# Altium footprint library MBRD20100CT13.PcbLib: 1 footprints
Each footprint in its own frame and in the unit in brackets; x right, y up, seen from the top. Pads: shape width x height; smd on the part's side, far side on the other; paste and mask are expansions set on the pad; w line width, h text height; cw(c..) or ccw(c..) is an arc to the next point about the centre after c.
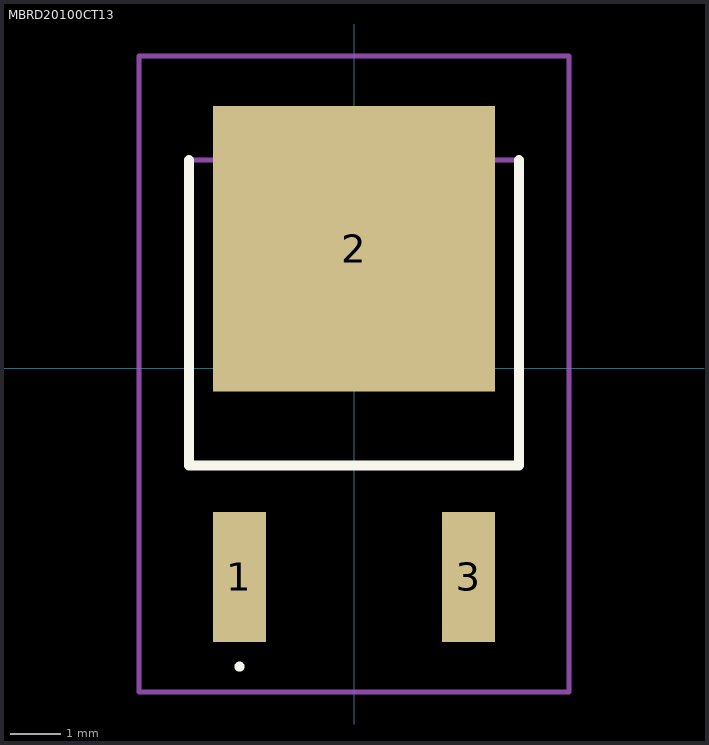
[diagram p0: the footprint, top view; thin cyan lines are the x and y axes]

## MBRD20100CT13 [mm]
pads (3):
  rect 1.06x2.6 smd: 1(-2.286,-4.16) 3(2.286,-4.16)
  rect 5.632x5.7 smd: 2(0,2.39)
Top Overlay:
  lines w0.1: -2.286,-6 -2.286,-6 ; -2.286,-6 ccw(c-2.286,-5.95) -2.286,-5.9 ; -2.286,-6 cw(c-2.286,-5.95) -2.286,-5.9 ; -2.286,-5.9 -2.286,-5.9
  lines w0.2: -3.29,4.16 -3.29,-1.94 3.29,-1.94 3.29,4.16
Mechanical 15:
  lines w0.1: -3.29,-1.94 3.29,-1.94 3.29,4.16 -3.29,4.16 -3.29,-1.94
Mechanical 20:
  lines w0.1: -4.29,-6.46 4.29,-6.46 4.29,6.24 -4.29,6.24 -4.29,-6.46